# Altium footprint library mosfet.PcbLib: 1 footprints
Each footprint in its own frame and in the unit in brackets; x right, y up, seen from the top. Pads: shape width x height; smd on the part's side, far side on the other; paste and mask are expansions set on the pad; w line width, h text height; cw(c..) or ccw(c..) is an arc to the next point about the centre after c.
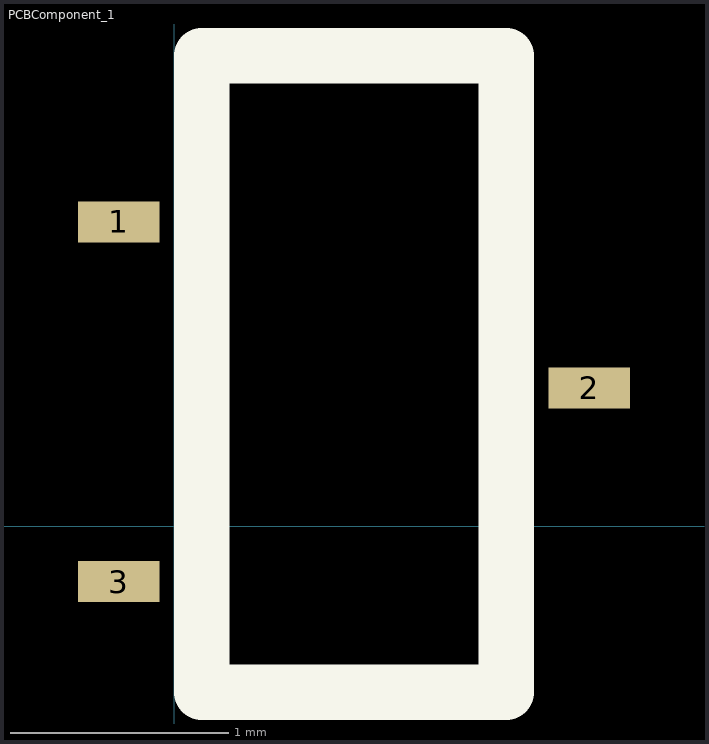
[diagram p0: the footprint, top view; thin cyan lines are the x and y axes]

## PCBComponent_1 [mil]
pads (3):
  rect 14.74x7.4 smd: 1(-10,55) 3(-10,-10)
  rect 14.7x7.4 smd: 2(75,25)
Top Overlay:
  lines w10: 5,-30 60,-30 60,85 5,85 5,-30